# EAGLE library part 2.2_TFT_LCD (library 2.2"tft)
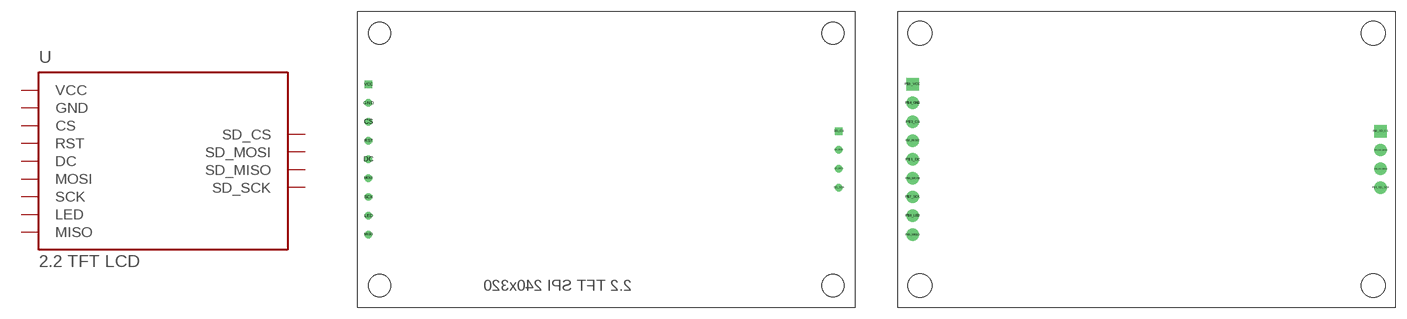
[diagram p0: symbol with the pads of 2.2_TFT_LCD; footprints 2.2_TFT_LCD, 2.2_TFT_LCD_LEDSEE]

Designator prefix -

## 2.2_TFT_LCD  [2.2_TFT_LCD]
CS  CS
DC  DC
GND  GND  pwr
LED  LED
MISO  MISO
MOSI  MOSI
RST  RST
SCK  SCK
SD_CS  SD_CS
SD_MISO  SD_MISO
SD_MOSI  SD_MOSI
SD_SCK  SD_SCK
VCC  VCC  pwr

## 2.2_TFT_LCDNEW  [2.2_TFT_LCD_LEDSEE]
P$1_DC  DC
P$1_SD_MOSI  SD_MOSI
P$2_RESET  RST
P$2_SD_CS  SD_CS
P$3_CS  CS
P$3_SD_MISO  SD_MISO
P$4_GND  GND  pwr
P$4_SD_SCK  SD_SCK
P$5_VCC  VCC  pwr
P$6_MOSI  MOSI
P$7_SCK  SCK
P$8_LED  LED
P$9_MISO  MISO

## Footprint 2.2_TFT_LCD (pad centres in mm)
drill 0.5: CS 0,-5.08; DC 0,-10.16; GND 0,-2.54; LED 0,-17.78; MISO 0,-20.32; MOSI 0,-12.7; RST 0,-7.62; SCK 0,-15.24; SD_MISO 63.5,-11.43; SD_MOSI 63.5,-8.89; SD_SCK 63.5,-13.97
drill 0.5 square: SD_CS 63.5,-6.35; VCC 0,0

## Footprint 2.2_TFT_LCD_LEDSEE (pad centres in mm)
drill 0.8 pad 1.676: P$1_DC -31.6,0; P$1_SD_MOSI 31.6,1.27; P$2_RESET -31.6,2.54; P$3_CS -31.6,5.08; P$3_SD_MISO 31.6,-1.27; P$4_GND -31.6,7.62; P$4_SD_SCK 31.6,-3.81; P$6_MOSI -31.6,-2.54; P$7_SCK -31.6,-5.08; P$8_LED -31.6,-7.62; P$9_MISO -31.6,-10.16
drill 0.8 pad 1.676 square: P$2_SD_CS 31.6,3.81; P$5_VCC -31.6,10.16
hole 3.2 at -30.6,17.05
hole 3.2 at 30.6,17.05
hole 3.2 at 30.6,-17.05
hole 3.2 at -30.6,-17.05